# EAGLE library part SMW-SX1262M0 (library SMW-SX1262M0)
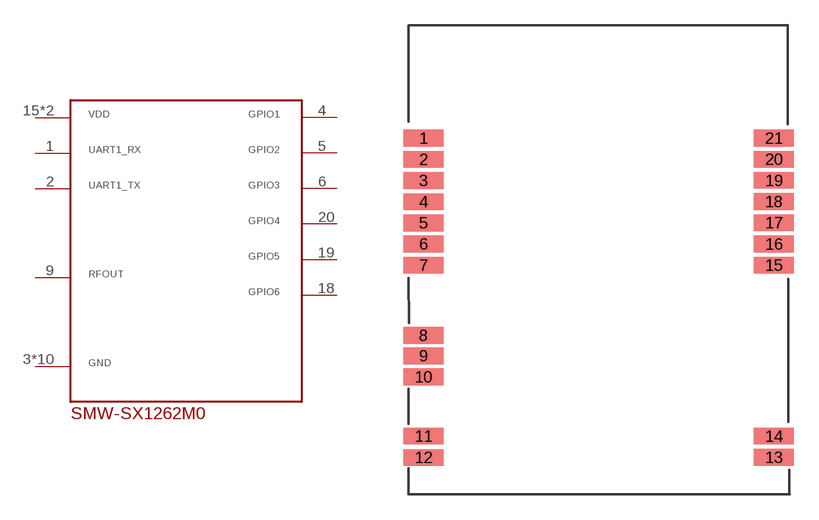
[diagram p0: symbol with the pads of SMW-SX1262M0; footprint SMW-SX1262M0]

Designator prefix -

## SMW-SX1262M0  [SMW-SX1262M0]
1  UART1_RX  in
2  UART1_TX  out
3  GND  pwr
4  GPIO1
5  GPIO2
6  GPIO3
7  GND  pwr
8  GND  pwr
9  RF_OUT
10  GND  pwr
11  GND  pwr
12  GND  pwr
13  GND  pwr
14  GND  pwr
15  VDD  pwr
16  VDD  pwr
17  GND  pwr
18  GPIO6
19  GPIO5
20  GPIO4
21  GND  pwr

## Footprint SMW-SX1262M0 (pad centres in mm)
smd 2.4 x 1: 1 0.998,21.466; 2 1.004,20.195; 3 1.003,18.929; 4 1.004,17.657; 5 1.003,16.386; 6 1.004,15.123; 7 1.003,13.85; 8 1.003,9.646; 9 0.997,8.421; 10 0.998,7.157; 11 1.002,3.609; 12 1.002,2.331; 13 22,2.336; 14 21.996,3.603; 15 21.998,13.852; 16 22.004,15.118; 17 22,16.395; 18 21.996,17.664; 19 22.004,18.932; 20 22.002,20.201; 21 21.997,21.469